# Altium schematic symbol library Infrared.SchLib: 1 symbol
Pins are listed as number, name and electrical type; pins without a type are passive.

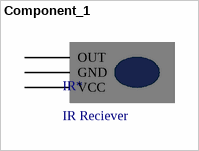
[diagram p0: symbol Component_1]

## Component_1
designator IR*, comment IR Reciever
38kHz Infrared reciever module
footprint IR (IR Reciever)
pins: 0 OUT, 1 GND, 2 VCC